# Altium footprint library PcbLib.PcbLib: 14 footprints
Each footprint in its own frame and in the unit in brackets; x right, y up, seen from the top. Pads: shape width x height; smd on the part's side, far side on the other; paste and mask are expansions set on the pad; w line width, h text height; cw(c..) or ccw(c..) is an arc to the next point about the centre after c.
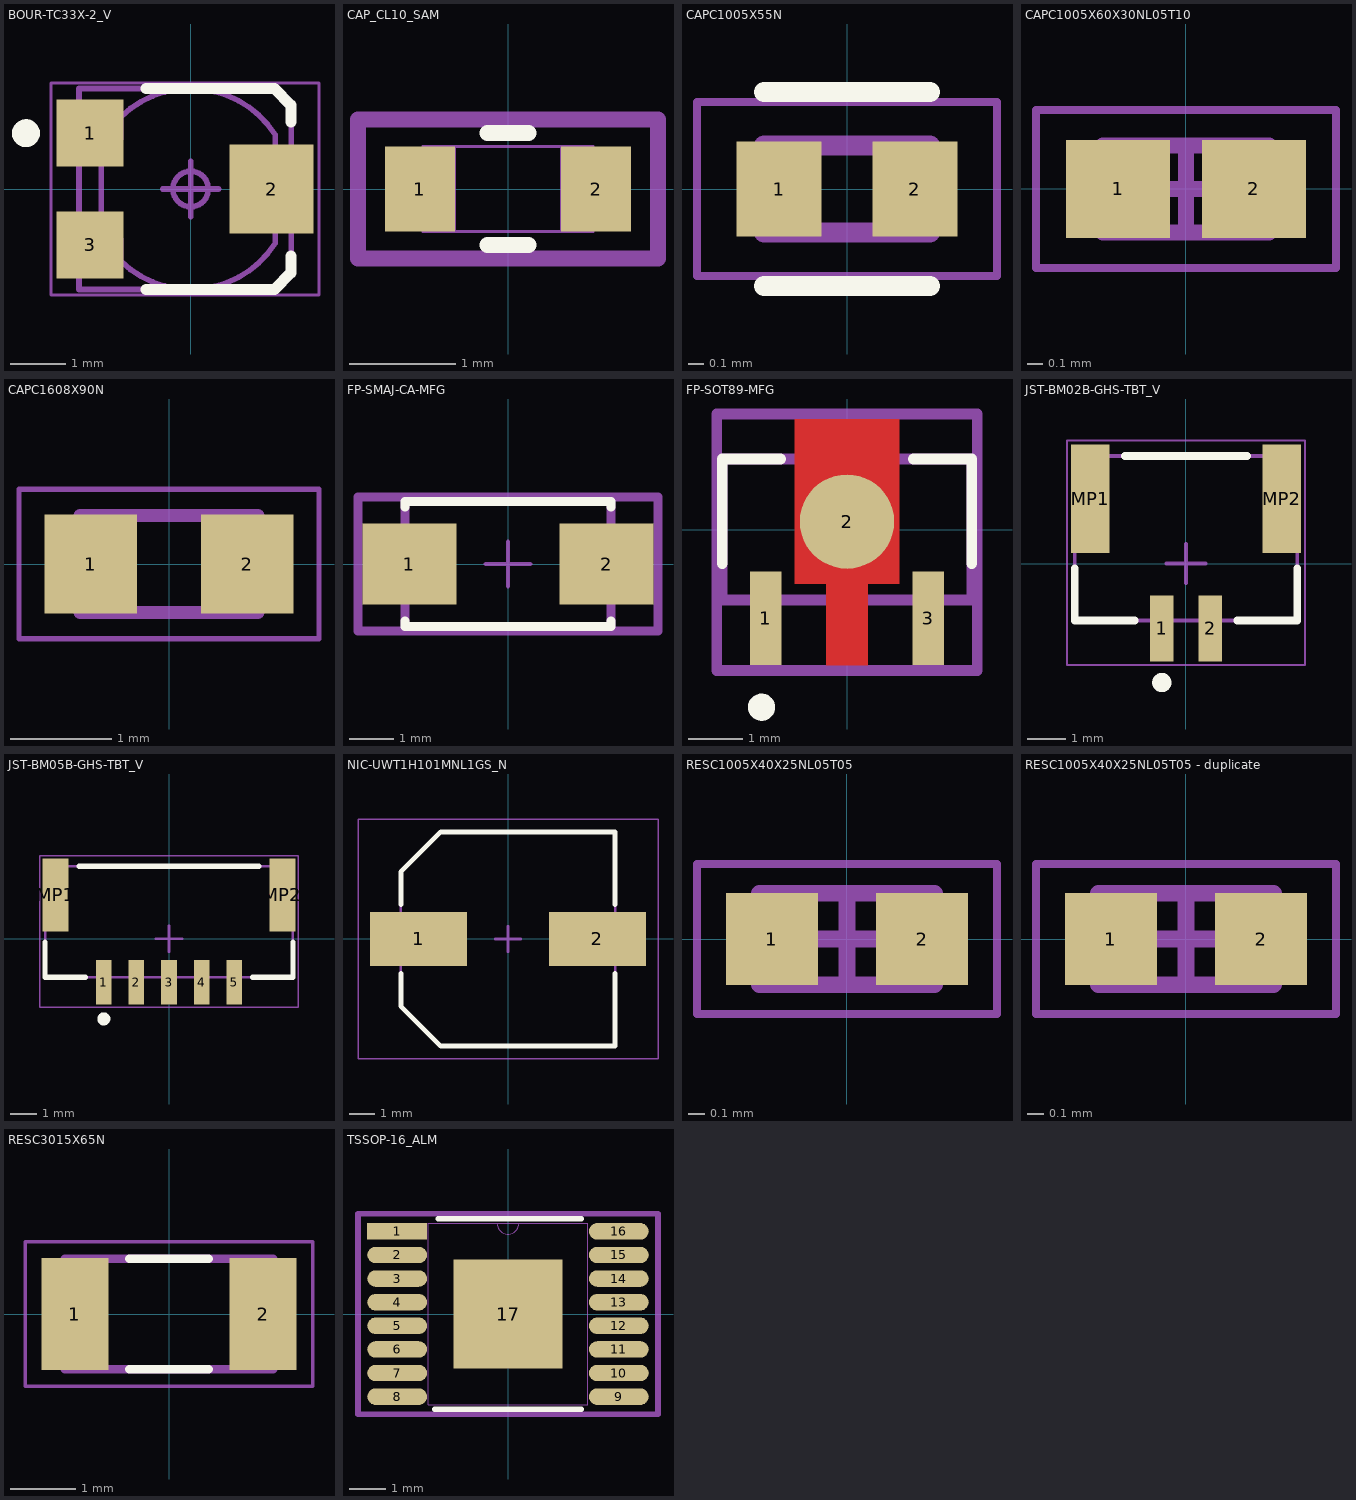
[diagram p0: the footprints below, top view; thin cyan lines are the x and y axes]

## BOUR-TC33X-2_V [mm] "SMD, 3-Leads, Body 3.8x3.6mm"
height 1.2
pads (3):
  rect 1.2x1.2 smd: 1(-1.8,1) 3(-1.8,-1)
  rect 1.5x1.6 smd: 2(1.45,0)
Top Overlay:
  circle w0.25: c-2.95,1 r0.125
  lines w0.2: -0.8,-1.8 1.5,-1.8 1.8,-1.5 1.8,-1.2 ; -0.8,1.8 1.5,1.8 1.8,1.5 1.8,1.2
Mechanical 13:
  lines w0.1: 1.515,-0.73 1.95,-0.73 1.95,-0.425 1.8,-0.425 ; 1.515,0.73 1.95,0.73 1.95,0.425 1.8,0.425 ; 1.8,-0.75 1.8,-1.5 1.5,-1.8 -2,-1.8 -2,1.8 1.5,1.8 1.8,1.5 1.8,0.75 ; 1.8,-0.42 1.8,0.42 ; -1.6,-0.895 -1.6,0.895 -1.25,0.895 -1.25,1.295 cw(c0,0) 1.515,0.972 1.515,0.352 cw(c1.16,0) 1.515,-0.352 1.515,-0.972 cw(c0,0) -1.25,-1.295 -1.25,-0.895 -1.6,-0.895 ; 0,-0.318 ccw(c0,0) 0,0.317 ccw(c0,0) 0,-0.318
Mechanical 15:
  lines w0.05: -2.5,-1.9 -2.5,1.9 2.3,1.9 2.3,-1.9 -2.5,-1.9
  lines w0.1: -0.5,0 0.5,0 ; 0,-0.5 0,0.5
3D body "BOUR-TC33X-2.stp": height 1.15, standoff 0, extent -2,-1.8 1.963,1.8

## CAP_CL10_SAM [mm]
pads (2):
  rect 0.656x0.8 smd paste+0 mask+0: 1(-0.828,0) 2(0.828,0)
Top Overlay:
  lines w0.152: -0.192,-0.527 0.192,-0.527 ; -0.192,0.527 0.192,0.527
Mechanical 13:
  lines w0.025: -0.8,-0.4 -0.8,0.4 ; -0.8,-0.4 0.8,-0.4 ; -0.8,-0.4 -0.5,-0.4 -0.5,0.4 -0.8,0.4 ; -0.8,-0.4 -0.8,0.4 ; -0.8,0.4 0.8,0.4 ; 0.8,-0.4 0.8,0.4 ; 0.8,-0.4 0.8,0.4 ; 0.8,-0.4 0.5,-0.4 0.5,0.4 0.8,0.4
Mechanical 15:
  lines w0.152: -1.41,-0.654 1.41,-0.654 1.41,0.654 -1.41,0.654 -1.41,-0.654
3D body: height 0.25, standoff 0, extent 0,0 0.254,0.254
3D body "CAP_CL10_SAM.step": height 0.9, standoff 0, extent -0.8,-0.4 0.8,0.4

## CAPC1005X55N [mm]
pads (2):
  rect 0.54x0.6 smd: 1(-0.43,0) 2(0.43,0)
Top Overlay:
  lines w0.127: -0.525,-0.615 0.525,-0.615 ; -0.525,0.615 0.525,0.615
Mechanical 13:
  lines w0.127: -0.525,-0.275 -0.525,0.275 0.525,0.275 0.525,-0.275 -0.525,-0.275
Mechanical 15:
  lines w0.05: -0.95,-0.55 -0.95,0.55 0.95,0.55 0.95,-0.55 -0.95,-0.55
3D body "UMK105BJ224KV-F.STEP": height 0.48, standoff -0.02, extent -0.5,-0.275 0.5,0.275

## CAPC1005X60X30NL05T10 [mm] "Chip Capacitor, 2-Leads, Body 1.00x0.50mm, IPC Medium Density"
height 0.6
pads (2):
  rect 0.66x0.62 smd: 1(-0.43,0) 2(0.43,0)
Mechanical 13:
  lines w0.1: -0.525,-0.275 0.525,-0.275 0.525,0.275 -0.525,0.275 -0.525,-0.275
Mechanical 15:
  lines w0.05: -0.95,-0.5 0.95,-0.5 0.95,0.5 -0.95,0.5 -0.95,-0.5
  lines w0.1: -0.275,0 0.275,0 ; 0,-0.275 0,0.275
3D body: height 0.6, standoff 0, extent 0.225,-0.275 0.525,0.275
3D body: height 0.6, standoff 0, extent -0.525,-0.275 -0.225,0.275
3D body: height 0.6, standoff 0, extent -0.225,-0.275 0.225,0.275

## CAPC1608X90N [mm]
pads (2):
  rect 0.92x0.98 smd: 1(-0.775,0) 2(0.775,0)
Mechanical 13:
  lines w0.127: -0.88,-0.48 -0.88,0.48 0.88,0.48 0.88,-0.48 -0.88,-0.48
Mechanical 15:
  lines w0.05: -1.485,-0.74 -1.485,0.74 1.485,0.74 1.485,-0.74 -1.485,-0.74
3D body "CL10A225KP8NNNC.STEP": height 0.78, standoff -0.02, extent -0.8,-0.45 0.8,0.45

## FP-SMAJ-CA-MFG [mm]
pads (2):
  rect 2.1x1.8 smd paste+0 mask+0: 1(-2.2,0) 2(2.2,0)
Top Overlay:
  lines w0.2: -2.3,-1.275 -2.3,-1.395 2.3,-1.395 2.3,-1.275 ; -2.3,1.275 -2.3,1.395 2.3,1.395 2.3,1.275
Mechanical 5:
  lines w0.2: -3.35,-1.495 -3.35,1.495 3.35,1.495 3.35,-1.495 -3.35,-1.495
  text ".Designator" at 0,0.188 h1
Mechanical 13:
  lines w0.2: -2.3,-1.395 -2.3,1.395 2.3,1.395 2.3,-1.395 -2.3,-1.395
Mechanical 15:
  lines w0.2: -3.35,-1.495 -3.35,1.495 3.35,1.495 3.35,-1.495 -3.35,-1.495
Mechanical 16:
  lines w0.1: -0.5,0 0.5,0 ; 0,-0.5 0,0.5
3D body "Diode_Littelfuse_Inc_SMAJ36CA_eec.STEP": height 0.25, standoff 0, extent -3.35,-1.495 3.35,1.495

## FP-SOT89-MFG [mm]
pads (3):
  rect 0.58x1.73 smd paste+0 mask+0: 1(-1.5,-1.635) 3(1.5,-1.635)
  round 1.74 smd paste+0 mask+0: 2(0,0.146)
Top Layer:
  region: -0.38,-2.5 -0.38,-1 -0.967,-1 -0.967,2.03 0.967,2.03 0.967,-1 0.38,-1 0.38,-2.5
Top Overlay:
  circle w0.25: c-1.575,-3.275 r0.125
  lines w0.2: -2.3,-0.625 -2.3,1.3 -1.225,1.3 ; 1.225,1.3 2.3,1.3 2.3,-0.625
Mechanical 5:
  lines w0.2: -2.4,-2.6 -2.4,2.13 2.4,2.13 2.4,-2.6 -2.4,-2.6
  text ".Designator" at 0,-0.047 h1
Mechanical 13:
  lines w0.2: -2.3,-1.3 -2.3,1.3 2.3,1.3 2.3,-1.3 -2.3,-1.3
Mechanical 15:
  lines w0.2: -2.4,-2.6 -2.4,2.13 2.4,2.13 2.4,-2.6 -2.4,-2.6
Mechanical 16:
  lines w0.1: -0.5,0 0.5,0 ; 0,-0.5 0,0.5
3D body "IC_Diodes_Inc_AP7381-33Y-13_eec.STEP": height 0.25, standoff 0, extent -2.4,-2.6 2.4,2.13

## JST-BM02B-GHS-TBT_V [mm] "Connector, 2-Leads, Body 5.75x4.25mm, Pitch 1.25mm"
height 4.05
pads (4):
  rect 0.6x1.7 smd: 1(-0.625,-1.675) 2(0.625,-1.675)
  rect 1x2.8 smd: MP1(-2.475,1.675) MP2(2.475,1.675)
Top Overlay:
  circle w0.25: c-0.625,-3.075 r0.125
  lines w0.2: -2.875,-0.125 -2.875,-1.475 -1.325,-1.475 ; -1.575,2.775 1.575,2.775 ; 1.325,-1.475 2.875,-1.475 2.875,-0.125
Mechanical 13:
  lines w0.1: -2.875,-1.475 2.875,-1.475 2.875,2.775 -2.875,2.775 -2.875,-1.475
Mechanical 15:
  lines w0.05: -3.075,-2.625 3.075,-2.625 3.075,3.175 -3.075,3.175 -3.075,-2.625
  lines w0.1: -0.5,0 0.5,0 ; 0,-0.5 0,0.5
3D body "BM02B-GHS-TBT.STEP": height 4.21, standoff 0.01, extent -2.875,-2.175 2.875,2.775

## JST-BM05B-GHS-TBT_V [mm] "Connector, 5-Leads, Body 9.5x4.25mm, Pitch 1.25mm"
height 4.05
pads (7):
  rect 0.6x1.7 smd: 1(-2.5,-1.675) 2(-1.25,-1.675) 3(0,-1.675) 4(1.25,-1.675) 5(2.5,-1.675)
  rect 1x2.8 smd: MP1(-4.35,1.675) MP2(4.35,1.675)
Top Overlay:
  circle w0.25: c-2.5,-3.075 r0.125
  lines w0.2: -4.75,-0.125 -4.75,-1.475 -3.2,-1.475 ; -3.45,2.775 3.45,2.775 ; 3.2,-1.475 4.75,-1.475 4.75,-0.125
Mechanical 13:
  lines w0.1: -4.75,-1.475 4.75,-1.475 4.75,2.775 -4.75,2.775 -4.75,-1.475
Mechanical 15:
  lines w0.05: -4.95,-2.625 4.95,-2.625 4.95,3.175 -4.95,3.175 -4.95,-2.625
  lines w0.1: -0.5,0 0.5,0 ; 0,-0.5 0,0.5
3D body "BM05B-GHS-TBT.STEP": height 4.2, standoff 0, extent -4.75,-2.175 4.75,2.775

## NIC-UWT1H101MNL1GS_N [mm] "Aluminum Electrolytic Capacitor, Body 8.5x8.5mm, IPC Medium Density"
height 10.8
pads (2):
  rect 3.85x2.15 smd: 1(-3.55,0) 2(3.55,0)
Top Overlay:
  lines w0.2: -4.25,-1.375 -4.25,-2.663 -2.663,-4.25 4.25,-4.25 4.25,-1.375 ; -4.25,1.375 -4.25,2.662 -2.663,4.25 4.25,4.25 4.25,1.375
Mechanical 13:
  lines w0.1: -4.25,-2.663 -4.25,2.662 -2.663,4.25 4.25,4.25 4.25,-4.25 -2.663,-4.25 -4.25,-2.663
Mechanical 15:
  lines w0.05: -5.95,-4.75 5.95,-4.75 5.95,4.75 -5.95,4.75 -5.95,-4.75
  lines w0.1: -0.5,0 0.5,0 ; 0,-0.5 0,0.5
3D body "CAPAE9383X108N.step": height 10.8, standoff 0, extent -4.65,-4.25 4.65,4.25

## RESC1005X40X25NL05T05 [mm] "Chip Resistor, 2-Leads, Body 1.00x0.50mm, IPC Medium Density"
height 0.4
pads (2):
  rect 0.55x0.55 smd: 1(-0.45,0) 2(0.45,0)
Mechanical 13:
  lines w0.1: -0.525,-0.275 -0.525,0.275 0.525,0.275 0.525,-0.275 -0.525,-0.275
Mechanical 15:
  lines w0.05: -0.9,-0.45 -0.9,0.45 0.9,0.45 0.9,-0.45 -0.9,-0.45
  lines w0.1: -0.275,0 0.275,0 ; 0,-0.275 0,0.275
3D body: height 0.4, standoff 0, extent -0.275,-0.275 0.275,0.275
3D body: height 0.4, standoff 0, extent -0.525,-0.275 -0.275,0.275
3D body: height 0.4, standoff 0, extent 0.275,-0.275 0.525,0.275

## RESC1005X40X25NL05T05 - duplicate [mm] "Chip Resistor, 2-Leads, Body 1.00x0.50mm, IPC Medium Density"
height 0.4
pads (2):
  rect 0.55x0.55 smd: 1(-0.45,0) 2(0.45,0)
Mechanical 13:
  lines w0.1: -0.525,-0.275 -0.525,0.275 0.525,0.275 0.525,-0.275 -0.525,-0.275
Mechanical 15:
  lines w0.05: -0.9,-0.45 -0.9,0.45 0.9,0.45 0.9,-0.45 -0.9,-0.45
  lines w0.1: -0.275,0 0.275,0 ; 0,-0.275 0,0.275
3D body: height 0.4, standoff 0, extent -0.275,-0.275 0.275,0.275
3D body: height 0.4, standoff 0, extent -0.525,-0.275 -0.275,0.275
3D body: height 0.4, standoff 0, extent 0.275,-0.275 0.525,0.275

## RESC3015X65N [mm]
pads (2):
  rect 1.03x1.72 smd: 1(-1.445,0) 2(1.445,0)
Top Overlay:
  lines w0.127: -0.61,-0.85 0.61,-0.85 ; -0.61,0.85 0.61,0.85
Mechanical 13:
  lines w0.127: -1.6,-0.85 -1.6,0.85 1.6,0.85 1.6,-0.85 -1.6,-0.85
Mechanical 15:
  lines w0.05: -2.21,-1.11 -2.21,1.11 2.21,1.11 2.21,-1.11 -2.21,-1.11
3D body "step_temp.STEP": height 0.65, standoff 0, extent -1.525,-0.775 1.525,0.775

## TSSOP-16_ALM [mm]
pads (17):
  rect 1.65x0.45 smd paste+0 mask+0: 1(-3.05,2.275)
  oval 1.65x0.45 smd paste+0 mask+0: 2(-3.05,1.625) 3(-3.05,0.975) 4(-3.05,0.325) 5(-3.05,-0.325) 6(-3.05,-0.975) 7(-3.05,-1.625) 8(-3.05,-2.275) 9(3.05,-2.275) 10(3.05,-1.625) 11(3.05,-0.975) 12(3.05,-0.325) 13(3.05,0.325) 14(3.05,0.975) 15(3.05,1.625) 16(3.05,2.275)
  rect 3x3 smd paste-1.487 mask+0: 17(0,0)
Top Overlay:
  lines w0.152: -2.017,-2.627 2.017,-2.627 ; -1.917,2.627 2.017,2.627
Top Paste:
  region: -0.1,1.4 -1.4,1.4 -1.4,0.1 -0.1,0.1
  region: -0.1,-0.1 -1.4,-0.1 -1.4,-1.4 -0.1,-1.4
  region: 1.4,1.4 0.1,1.4 0.1,0.1 1.4,0.1
  region: 1.4,-0.1 0.1,-0.1 0.1,-1.4 1.4,-1.4
Mechanical 13:
  lines w0: -0.305,2.5 ccw(c0,2.5) 0.305,2.5
  lines w0.025: -2.2,-2.5 2.2,-2.5 2.2,2.5 -2.2,2.5 -2.2,-2.5
Mechanical 15:
  lines w0.152: -4.129,-2.754 -4.129,2.754 -2.454,2.754 2.454,2.754 4.129,2.754 4.129,-2.754 2.454,-2.754 -2.454,-2.754 -4.129,-2.754
3D body "TSSOP-16_ALM.step": height 1.2, standoff -0.05, extent -3.525,-2.5 3.525,2.5